# Altium schematic symbol library CONN_USB_AB.SchLib: 1 symbol
Pins are listed as number, name and electrical type; pins without a type are passive.

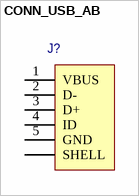
[diagram p0: symbol CONN_USB_AB]

## CONN_USB_AB
designator J?  (value not drawn)
pins: 0 SHELL, 1 VBUS, 2 D-, 3 D+, 4 ID, 5 GND